# EAGLE library part MP2497 (library DC-DC Regulator)
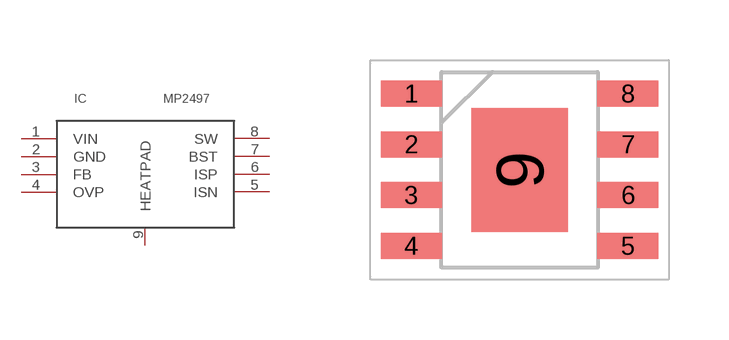
[diagram p0: symbol with the pads of SOIC8; footprint SOIC8]

Designator prefix IC

## MP2497E  [SOIC8]
1  VIN  pwr
2  GND  pwr
3  FB  in
4  OVP  in
5  ISN
6  ISP
7  BST  pas
8  SW  out
9  HEATPAD  sup

## Footprint SOIC8 (pad centres in mm)
DDA (PDSO-G8)
smd 1.525 x 0.65: 1 -2.712,1.905; 2 -2.712,0.635; 3 -2.712,-0.635; 4 -2.712,-1.905; 5 2.712,-1.905; 6 2.712,-0.635; 7 2.712,0.635; 8 2.712,1.905
smd 2.4 x 3.1: 9 0,0